# EAGLE library part SAMTEC_BKT_119_1 (library user)
Header connector
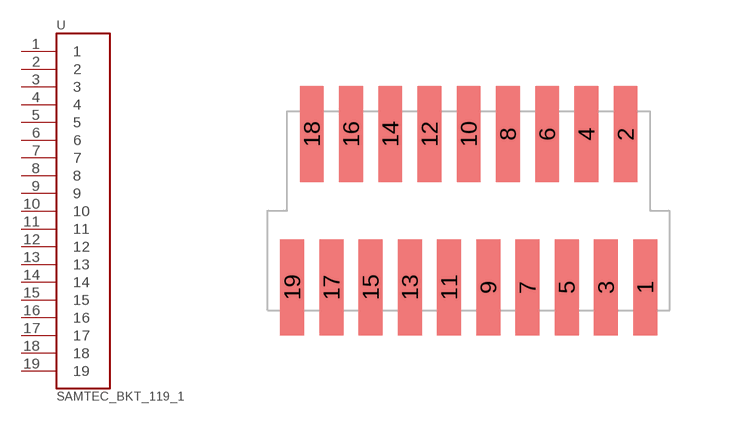
[diagram p5: symbol with the pads of SAMTEC_BKT_19P; footprint SAMTEC_BKT_19P]

Designator prefix -

## SAMTEC_BKT_119_1  [SAMTEC_BKT_19P]
1  1  pas
2  2  pas
3  3  pas
4  4  pas
5  5  pas
6  6  pas
7  7  pas
8  8  pas
9  9  pas
10  10  pas
11  11  pas
12  12  pas
13  13  pas
14  14  pas
15  15  pas
16  16  pas
17  17  pas
18  18  pas
19  19  pas

## Footprint SAMTEC_BKT_19P (pad centres in mm)
smd 0.61 x 2.44: 1 9,-0.685; 2 8.5,3.225; 3 8,-0.685; 4 7.5,3.225; 5 7,-0.685; 6 6.5,3.225; 7 6,-0.685; 8 5.5,3.225; 9 5,-0.685; 10 4.5,3.225; 11 4,-0.685; 12 3.5,3.225; 13 3,-0.685; 14 2.5,3.225; 15 2,-0.685; 16 1.5,3.225; 17 1,-0.685; 18 0.5,3.225; 19 0,-0.685